# EAGLE library part ILSOFT_OLED (library ILSoft-OLED)
ILSoft 1.5" Colour OLED Breakout Board from http://electronics.ilsoft.co.uk/ColourOLED.aspx
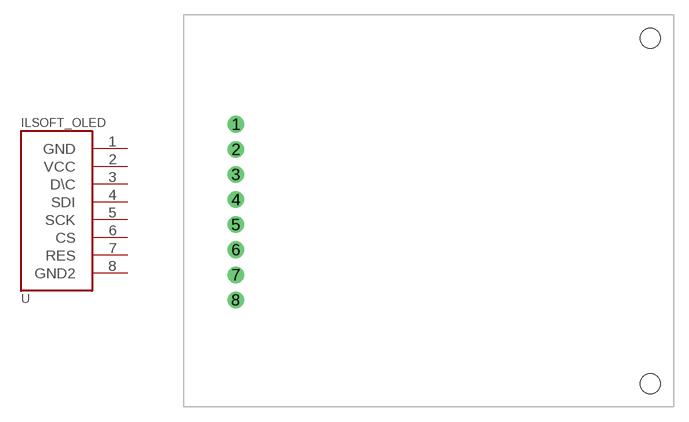
[diagram p0: symbol with the pads of ILSOFT_OLED; footprint ILSOFT_OLED]

Designator prefix -

## ILSOFT_OLED  [ILSOFT_OLED]
1  GND
2  VCC
3  D\C
4  SDI
5  SCK
6  CS
7  RES
8  GND2

## Footprint ILSOFT_OLED (pad centres in mm)
drill 1.016 pad 1.676: 1 -19.13,8.46; 2 -19.13,5.92; 3 -19.13,3.38; 4 -19.13,0.84; 5 -19.13,-1.7; 6 -19.13,-4.24; 7 -19.13,-6.78; 8 -19.13,-9.32
hole 2 at 22.87,17.18
hole 2 at 22.87,-17.82